# Altium footprint library PCB_Fungnator.PcbLib: 3 footprints
Each footprint in its own frame and in the unit in brackets; x right, y up, seen from the top. Pads: shape width x height; smd on the part's side, far side on the other; paste and mask are expansions set on the pad; w line width, h text height; cw(c..) or ccw(c..) is an arc to the next point about the centre after c.
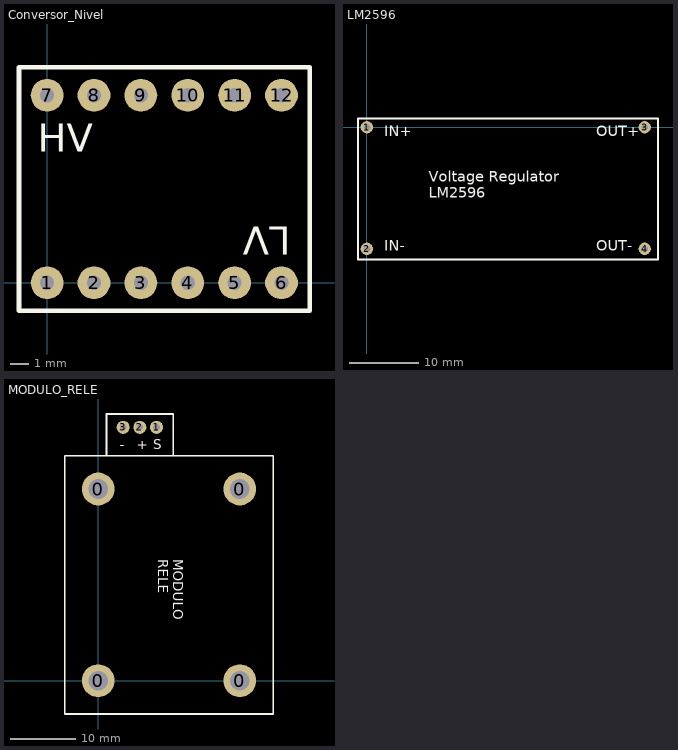
[diagram p0: the footprints below, top view; thin cyan lines are the x and y axes]

## Conversor_Nivel [mil]
pads (12):
  round 70 hole 30: 1(0,0) 2(100,0) 3(200,0) 4(300,0) 5(400,0) 6(500,0) 7(0,400) 8(100,400) 9(200,400) 10(300,400) 11(400,400) 12(500,400)
Top Overlay:
  lines w10: -60,-60 560,-60 560,460 -60,460 -60,-60
  text "HV" at -20,280 h60
  text "LV" at 520,120 h60

## LM2596 [mil] "LM2596 module"
pads (4):
  round 70 hole 39.37: 1(0,0) 2(0,-688.98) 3(1574.8,0) 4(1574.8,-688.98)
Top Overlay:
  lines w10: -50,-750 1650,-750 1650,50 -50,50 -50,-750
  text "OUT-" at 1300,-700 h60
  text "OUT+" at 1300,-50 h60
  text "IN-" at 100,-700 h60
  text "IN+" at 100,-50 h60
  text "Voltage Regulator / LM2596" at 350,-400 h60

## MODULO_RELE [mm]
pads (7):
  round 5 hole 3: 0(0,0) 0(0,29.21) 0(21.59,0) 0(21.59,29.21)
  round 2 hole 1: 1(8.89,38.608) 2(6.35,38.608) 3(3.81,38.608)
Top Overlay:
  lines w0.254: 1.27,34.29 1.27,40.64 11.43,40.64 11.43,34.29 ; -5.08,-5.08 26.67,-5.08 26.67,34.29 -5.08,34.29 -5.08,-5.08
  text "-" at 3.302,35.306 h1.52
  text "+" at 5.842,35.306 h1.52
  text "S" at 8.382,35.306 h1.52
  text "MODULO / RELE" at 9.144,18.542 h1.52